# EAGLE library part OV9655FSL (library balto)
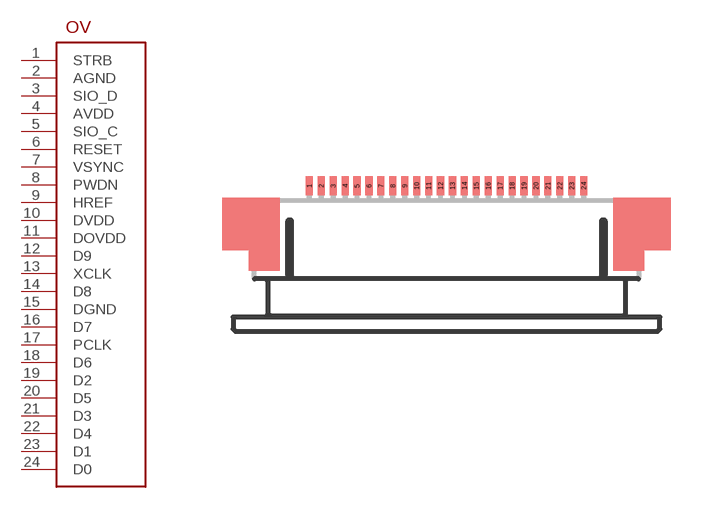
[diagram p1: symbol with the pads of 52437-2491; footprint 52437-2491]

Designator prefix OV

## OV9655FSL  [52437-2491]
1  STRB
2  AGND
3  SIO_D
4  AVDD
5  SIO_C
6  RESET
7  VSYNC
8  PWDN
9  HREF
10  DVDD
11  DOVDD
12  D9
13  XCLK
14  D8
15  DGND
16  D7
17  PCLK
18  D6
19  D2
20  D5
21  D3
22  D4
23  D1
24  D0

## Footprint 52437-2491 (pad centres in mm)
FFC/FPC-to-Board 0.50mm (.020") SMT Top Contact Right Angle, ZIF, Style Receptacle 52745 / 52435 Source: http://www.molex.com/product/ffc/52745.html
smd 0.3 x 0.8: 1 -5.75,2.5; 2 -5.25,2.5; 3 -4.75,2.5; 4 -4.25,2.5; 5 -3.75,2.5; 6 -3.25,2.5; 7 -2.75,2.5; 8 -2.25,2.5; 9 -1.75,2.5; 10 -1.25,2.5; 11 -0.75,2.5; 12 -0.25,2.5; 13 0.25,2.5; 14 0.75,2.5; 15 1.25,2.5; 16 1.75,2.5; 17 2.25,2.5; 18 2.75,2.5; 19 3.25,2.5; 20 3.75,2.5; 21 4.25,2.5; 22 4.75,2.5; 23 5.25,2.5; 24 5.75,2.5